# EAGLE library part LM2596S (library robotter_ic)
STEP-DOWN VOLTAGE REGULATOR
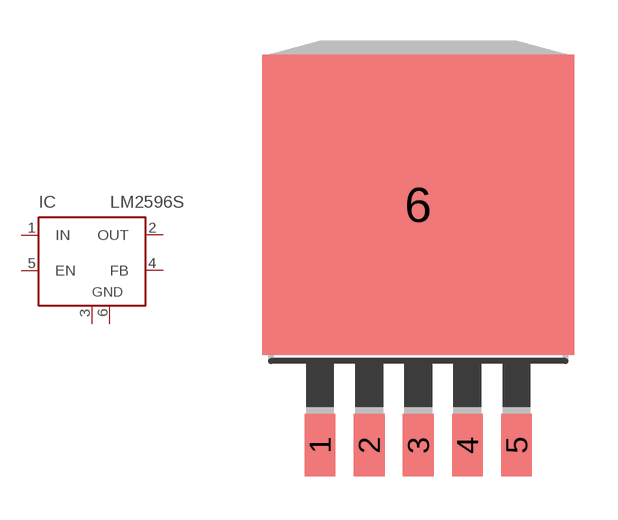
[diagram p0: symbol with the pads of TO263-5; footprint TO263-5]

Designator prefix IC

## LM2596S-3.3 (VALUE: LM2596S-3.3)  [TO263-5]
1  IN  in
2  OUT  out
3  GND  pwr
4  FB  in
5  EN  in
6  GND  pwr

## LM2596S-5 (VALUE: LM2596S-5)  [TO263-5]
Pads as for TO263-5

## LM2596S-ADJ (FARNELL: 1469194; MOUSER: 926-LM2596SX-ADJNOPB; RS: 533-3715; VALUE: LM2596S-ADJ)  [TO263-5]
Pads as for TO263-5

## LM2596S-12 (VALUE: LM2596S-12)  [TO263-5]
Pads as for TO263-5

## Footprint TO263-5 (pad centres in mm)
TO-263
smd 1.067 x 2.159: 1 -3.404,-5.791; 2 -1.702,-5.791; 3 0,-5.791; 4 1.702,-5.791; 5 3.404,-5.791
smd 10.8 x 10.41: 6 0,2.54